# Altium footprint library PIC32CZ4010CA80208-I8MX.PcbLib: 3 footprints
Each footprint in its own frame and in the unit in brackets; x right, y up, seen from the top. Pads: shape width x height; smd on the part's side, far side on the other; paste and mask are expansions set on the pad; w line width, h text height; cw(c..) or ccw(c..) is an arc to the next point about the centre after c.
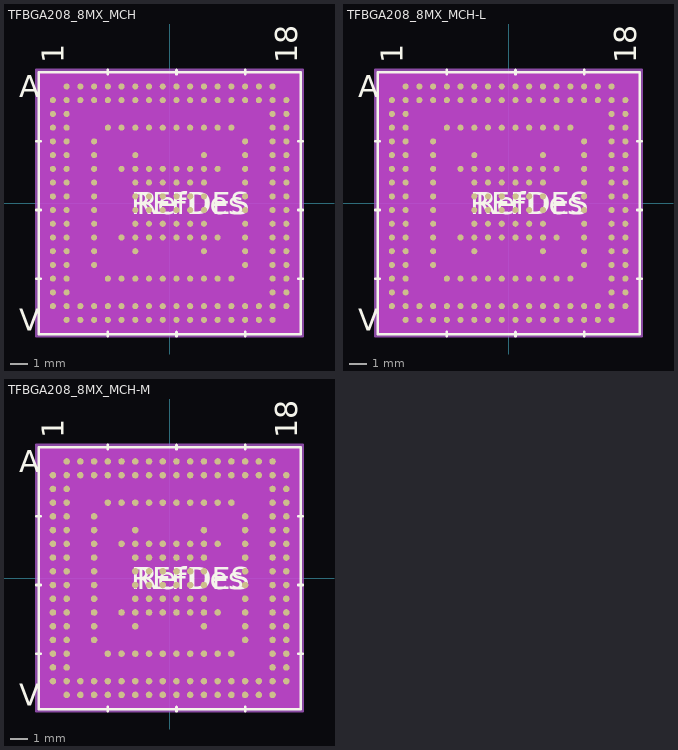
[diagram p0: the footprints below, top view; thin cyan lines are the x and y axes]

## TFBGA208_8MX_MCH [mm]
pads (208):
  round 0.356 smd paste+0 mask+0: A2(-6,6.8) A3(-5.2,6.8) A4(-4.4,6.8) A5(-3.6,6.8) A6(-2.8,6.8) A7(-2,6.8) A8(-1.2,6.8) A9(-0.4,6.8) A10(0.4,6.8) A11(1.2,6.8) A12(2,6.8) A13(2.8,6.8) A14(3.6,6.8) A15(4.4,6.8) A16(5.2,6.8) A17(6,6.8) B1(-6.8,6) B2(-6,6) B3(-5.2,6) B4(-4.4,6) B5(-3.6,6) B6(-2.8,6) B7(-2,6) B8(-1.2,6) B9(-0.4,6) B10(0.4,6) B11(1.2,6) B12(2,6) B13(2.8,6) B14(3.6,6) B15(4.4,6) B16(5.2,6) B17(6,6) B18(6.8,6) C1(-6.8,5.2) C2(-6,5.2) C17(6,5.2) C18(6.8,5.2) D1(-6.8,4.4) D2(-6,4.4) D5(-3.6,4.4) D6(-2.8,4.4) D7(-2,4.4) D8(-1.2,4.4) D9(-0.4,4.4) D10(0.4,4.4) D11(1.2,4.4) D12(2,4.4) D13(2.8,4.4) D14(3.6,4.4) D17(6,4.4) D18(6.8,4.4) E1(-6.8,3.6) E2(-6,3.6) E4(-4.4,3.6) E15(4.4,3.6) E17(6,3.6) E18(6.8,3.6) F1(-6.8,2.8) F2(-6,2.8) F4(-4.4,2.8) F7(-2,2.8) F12(2,2.8) F15(4.4,2.8) F17(6,2.8) F18(6.8,2.8) G1(-6.8,2) G2(-6,2) G4(-4.4,2) G6(-2.8,2) G7(-2,2) G8(-1.2,2) G9(-0.4,2) G10(0.4,2) G11(1.2,2) G12(2,2) G13(2.8,2) G15(4.4,2) G17(6,2) G18(6.8,2) H1(-6.8,1.2) H2(-6,1.2) H4(-4.4,1.2) H7(-2,1.2) H8(-1.2,1.2) H9(-0.4,1.2) H10(0.4,1.2) H11(1.2,1.2) H12(2,1.2) H15(4.4,1.2) H17(6,1.2) H18(6.8,1.2) J1(-6.8,0.4) J2(-6,0.4) J4(-4.4,0.4) J7(-2,0.4) J8(-1.2,0.4) J9(-0.4,0.4) J10(0.4,0.4) J11(1.2,0.4) J12(2,0.4) J15(4.4,0.4) J17(6,0.4) J18(6.8,0.4) K1(-6.8,-0.4) K2(-6,-0.4) K4(-4.4,-0.4) K7(-2,-0.4) K8(-1.2,-0.4) K9(-0.4,-0.4) K10(0.4,-0.4) K11(1.2,-0.4) K12(2,-0.4) K15(4.4,-0.4) K17(6,-0.4) K18(6.8,-0.4) L1(-6.8,-1.2) L2(-6,-1.2) L4(-4.4,-1.2) L7(-2,-1.2) L8(-1.2,-1.2) L9(-0.4,-1.2) L10(0.4,-1.2) L11(1.2,-1.2) L12(2,-1.2) L15(4.4,-1.2) L17(6,-1.2) L18(6.8,-1.2) M1(-6.8,-2) M2(-6,-2) M4(-4.4,-2) M6(-2.8,-2) M7(-2,-2) M8(-1.2,-2) M9(-0.4,-2) M10(0.4,-2) M11(1.2,-2) M12(2,-2) M13(2.8,-2) M15(4.4,-2) M17(6,-2) M18(6.8,-2) N1(-6.8,-2.8) N2(-6,-2.8) N4(-4.4,-2.8) N7(-2,-2.8) N12(2,-2.8) N15(4.4,-2.8) N17(6,-2.8) N18(6.8,-2.8) P1(-6.8,-3.6) P2(-6,-3.6) P4(-4.4,-3.6) P15(4.4,-3.6) P17(6,-3.6) P18(6.8,-3.6) R1(-6.8,-4.4) R2(-6,-4.4) R5(-3.6,-4.4) R6(-2.8,-4.4) R7(-2,-4.4) R8(-1.2,-4.4) R9(-0.4,-4.4) R10(0.4,-4.4) R11(1.2,-4.4) R12(2,-4.4) R13(2.8,-4.4) R14(3.6,-4.4) R17(6,-4.4) R18(6.8,-4.4) T1(-6.8,-5.2) T2(-6,-5.2) T17(6,-5.2) T18(6.8,-5.2) U1(-6.8,-6) U2(-6,-6) U3(-5.2,-6) U4(-4.4,-6) U5(-3.6,-6) U6(-2.8,-6) U7(-2,-6) U8(-1.2,-6) U9(-0.4,-6) U10(0.4,-6) U11(1.2,-6) U12(2,-6) U13(2.8,-6) U14(3.6,-6) U15(4.4,-6) U16(5.2,-6) U17(6,-6) U18(6.8,-6) V2(-6,-6.8) V3(-5.2,-6.8) V4(-4.4,-6.8) V5(-3.6,-6.8) V6(-2.8,-6.8) V7(-2,-6.8) V8(-1.2,-6.8) V9(-0.4,-6.8) V10(0.4,-6.8) V11(1.2,-6.8) V12(2,-6.8) V13(2.8,-6.8) V14(3.6,-6.8) V15(4.4,-6.8) V16(5.2,-6.8) V17(6,-6.8)
Top Overlay:
  lines w0.152: -7.76,-4.4 -7.506,-4.4 ; -7.76,-0.4 -7.506,-0.4 ; -7.76,3.6 -7.506,3.6 ; -3.6,-7.76 -3.6,-7.506 ; -3.6,7.506 -3.6,7.76 ; 0.4,-7.76 0.4,-7.506 ; 0.4,7.506 0.4,7.76 ; 4.4,-7.76 4.4,-7.506 ; 4.4,7.506 4.4,7.76 ; 7.506,-4.4 7.76,-4.4 ; 7.506,-0.4 7.76,-0.4 ; 7.506,3.6 7.76,3.6 ; -7.633,-7.633 7.633,-7.633 7.633,7.633 -7.633,7.633 -7.633,-7.633
  text "A" at -8.776,6.165 h1.27
  text "V" at -8.776,-7.435 h1.27
  text "1" at -6.165,8.141 h1.27
  text "18" at 7.435,8.141 h1.27
  text "RefDes" at -1.905,-0.635 h1.27
  text "REFDES" at -2.222,-0.635 h1.27
Bottom Overlay:
  text "A" at -8.141,6.165 h1.27
  text "V" at -8.141,-7.435 h1.27
  text "1" at -7.435,8.141 h1.27
  text "18" at 6.165,8.141 h1.27
Keep-Out Layer:
  region: -7.644,-7.644 -7.644,7.644 7.644,7.644 7.644,-7.644
Mechanical 13:
  lines w0.025: -7.506,7.106 -7.106,7.506 ; -7.506,-7.506 7.506,-7.506 7.506,7.506 -7.506,7.506 -7.506,-7.506
  text "A" at -8.776,6.165 h1.27
  text "V" at -8.776,-7.435 h1.27
  text "1" at -6.165,8.141 h1.27
  text "18" at 7.435,8.141 h1.27
  text "RefDes2" at -2.222,-0.635 h1.27
Mechanical 15:
  region: 7.76,-7.76 -7.76,-7.76 -7.76,7.76 7.76,7.76
  lines w0.152: -7.76,-7.76 -7.76,7.76 7.76,7.76 7.76,-7.76 -7.76,-7.76
3D body "TFBGA208_8MX_MCH.step": height 1.2, standoff 0, extent -7.506,-7.506 7.506,7.506

## TFBGA208_8MX_MCH-L [mm]
pads (208):
  round 0.356 smd paste+0 mask+0: A2(-6,6.8) A3(-5.2,6.8) A4(-4.4,6.8) A5(-3.6,6.8) A6(-2.8,6.8) A7(-2,6.8) A8(-1.2,6.8) A9(-0.4,6.8) A10(0.4,6.8) A11(1.2,6.8) A12(2,6.8) A13(2.8,6.8) A14(3.6,6.8) A15(4.4,6.8) A16(5.2,6.8) A17(6,6.8) B1(-6.8,6) B2(-6,6) B3(-5.2,6) B4(-4.4,6) B5(-3.6,6) B6(-2.8,6) B7(-2,6) B8(-1.2,6) B9(-0.4,6) B10(0.4,6) B11(1.2,6) B12(2,6) B13(2.8,6) B14(3.6,6) B15(4.4,6) B16(5.2,6) B17(6,6) B18(6.8,6) C1(-6.8,5.2) C2(-6,5.2) C17(6,5.2) C18(6.8,5.2) D1(-6.8,4.4) D2(-6,4.4) D5(-3.6,4.4) D6(-2.8,4.4) D7(-2,4.4) D8(-1.2,4.4) D9(-0.4,4.4) D10(0.4,4.4) D11(1.2,4.4) D12(2,4.4) D13(2.8,4.4) D14(3.6,4.4) D17(6,4.4) D18(6.8,4.4) E1(-6.8,3.6) E2(-6,3.6) E4(-4.4,3.6) E15(4.4,3.6) E17(6,3.6) E18(6.8,3.6) F1(-6.8,2.8) F2(-6,2.8) F4(-4.4,2.8) F7(-2,2.8) F12(2,2.8) F15(4.4,2.8) F17(6,2.8) F18(6.8,2.8) G1(-6.8,2) G2(-6,2) G4(-4.4,2) G6(-2.8,2) G7(-2,2) G8(-1.2,2) G9(-0.4,2) G10(0.4,2) G11(1.2,2) G12(2,2) G13(2.8,2) G15(4.4,2) G17(6,2) G18(6.8,2) H1(-6.8,1.2) H2(-6,1.2) H4(-4.4,1.2) H7(-2,1.2) H8(-1.2,1.2) H9(-0.4,1.2) H10(0.4,1.2) H11(1.2,1.2) H12(2,1.2) H15(4.4,1.2) H17(6,1.2) H18(6.8,1.2) J1(-6.8,0.4) J2(-6,0.4) J4(-4.4,0.4) J7(-2,0.4) J8(-1.2,0.4) J9(-0.4,0.4) J10(0.4,0.4) J11(1.2,0.4) J12(2,0.4) J15(4.4,0.4) J17(6,0.4) J18(6.8,0.4) K1(-6.8,-0.4) K2(-6,-0.4) K4(-4.4,-0.4) K7(-2,-0.4) K8(-1.2,-0.4) K9(-0.4,-0.4) K10(0.4,-0.4) K11(1.2,-0.4) K12(2,-0.4) K15(4.4,-0.4) K17(6,-0.4) K18(6.8,-0.4) L1(-6.8,-1.2) L2(-6,-1.2) L4(-4.4,-1.2) L7(-2,-1.2) L8(-1.2,-1.2) L9(-0.4,-1.2) L10(0.4,-1.2) L11(1.2,-1.2) L12(2,-1.2) L15(4.4,-1.2) L17(6,-1.2) L18(6.8,-1.2) M1(-6.8,-2) M2(-6,-2) M4(-4.4,-2) M6(-2.8,-2) M7(-2,-2) M8(-1.2,-2) M9(-0.4,-2) M10(0.4,-2) M11(1.2,-2) M12(2,-2) M13(2.8,-2) M15(4.4,-2) M17(6,-2) M18(6.8,-2) N1(-6.8,-2.8) N2(-6,-2.8) N4(-4.4,-2.8) N7(-2,-2.8) N12(2,-2.8) N15(4.4,-2.8) N17(6,-2.8) N18(6.8,-2.8) P1(-6.8,-3.6) P2(-6,-3.6) P4(-4.4,-3.6) P15(4.4,-3.6) P17(6,-3.6) P18(6.8,-3.6) R1(-6.8,-4.4) R2(-6,-4.4) R5(-3.6,-4.4) R6(-2.8,-4.4) R7(-2,-4.4) R8(-1.2,-4.4) R9(-0.4,-4.4) R10(0.4,-4.4) R11(1.2,-4.4) R12(2,-4.4) R13(2.8,-4.4) R14(3.6,-4.4) R17(6,-4.4) R18(6.8,-4.4) T1(-6.8,-5.2) T2(-6,-5.2) T17(6,-5.2) T18(6.8,-5.2) U1(-6.8,-6) U2(-6,-6) U3(-5.2,-6) U4(-4.4,-6) U5(-3.6,-6) U6(-2.8,-6) U7(-2,-6) U8(-1.2,-6) U9(-0.4,-6) U10(0.4,-6) U11(1.2,-6) U12(2,-6) U13(2.8,-6) U14(3.6,-6) U15(4.4,-6) U16(5.2,-6) U17(6,-6) U18(6.8,-6) V2(-6,-6.8) V3(-5.2,-6.8) V4(-4.4,-6.8) V5(-3.6,-6.8) V6(-2.8,-6.8) V7(-2,-6.8) V8(-1.2,-6.8) V9(-0.4,-6.8) V10(0.4,-6.8) V11(1.2,-6.8) V12(2,-6.8) V13(2.8,-6.8) V14(3.6,-6.8) V15(4.4,-6.8) V16(5.2,-6.8) V17(6,-6.8)
Top Overlay:
  lines w0.152: -7.76,-4.4 -7.506,-4.4 ; -7.76,-0.4 -7.506,-0.4 ; -7.76,3.6 -7.506,3.6 ; -3.6,-7.76 -3.6,-7.506 ; -3.6,7.506 -3.6,7.76 ; 0.4,-7.76 0.4,-7.506 ; 0.4,7.506 0.4,7.76 ; 4.4,-7.76 4.4,-7.506 ; 4.4,7.506 4.4,7.76 ; 7.506,-4.4 7.76,-4.4 ; 7.506,-0.4 7.76,-0.4 ; 7.506,3.6 7.76,3.6 ; -7.633,-7.633 7.633,-7.633 7.633,7.633 -7.633,7.633 -7.633,-7.633
  text "A" at -8.776,6.165 h1.27
  text "V" at -8.776,-7.435 h1.27
  text "1" at -6.165,8.141 h1.27
  text "18" at 7.435,8.141 h1.27
  text "RefDes" at -1.905,-0.635 h1.27
  text "REFDES" at -2.222,-0.635 h1.27
Bottom Overlay:
  text "A" at -8.141,6.165 h1.27
  text "V" at -8.141,-7.435 h1.27
  text "1" at -7.435,8.141 h1.27
  text "18" at 6.165,8.141 h1.27
Keep-Out Layer:
  region: -7.644,-7.644 -7.644,7.644 7.644,7.644 7.644,-7.644
Mechanical 13:
  lines w0.025: -7.506,7.106 -7.106,7.506 ; -7.506,-7.506 7.506,-7.506 7.506,7.506 -7.506,7.506 -7.506,-7.506
  text "A" at -8.776,6.165 h1.27
  text "V" at -8.776,-7.435 h1.27
  text "1" at -6.165,8.141 h1.27
  text "18" at 7.435,8.141 h1.27
  text "RefDes2" at -2.222,-0.635 h1.27
Mechanical 15:
  region: 7.76,-7.76 -7.76,-7.76 -7.76,7.76 7.76,7.76
  lines w0.152: -7.76,-7.76 -7.76,7.76 7.76,7.76 7.76,-7.76 -7.76,-7.76
3D body "TFBGA208_8MX_MCH.step": height 1.2, standoff 0, extent -7.506,-7.506 7.506,7.506

## TFBGA208_8MX_MCH-M [mm]
pads (208):
  round 0.381 smd paste+0 mask+0: A2(-6,6.8) A3(-5.2,6.8) A4(-4.4,6.8) A5(-3.6,6.8) A6(-2.8,6.8) A7(-2,6.8) A8(-1.2,6.8) A9(-0.4,6.8) A10(0.4,6.8) A11(1.2,6.8) A12(2,6.8) A13(2.8,6.8) A14(3.6,6.8) A15(4.4,6.8) A16(5.2,6.8) A17(6,6.8) B1(-6.8,6) B2(-6,6) B3(-5.2,6) B4(-4.4,6) B5(-3.6,6) B6(-2.8,6) B7(-2,6) B8(-1.2,6) B9(-0.4,6) B10(0.4,6) B11(1.2,6) B12(2,6) B13(2.8,6) B14(3.6,6) B15(4.4,6) B16(5.2,6) B17(6,6) B18(6.8,6) C1(-6.8,5.2) C2(-6,5.2) C17(6,5.2) C18(6.8,5.2) D1(-6.8,4.4) D2(-6,4.4) D5(-3.6,4.4) D6(-2.8,4.4) D7(-2,4.4) D8(-1.2,4.4) D9(-0.4,4.4) D10(0.4,4.4) D11(1.2,4.4) D12(2,4.4) D13(2.8,4.4) D14(3.6,4.4) D17(6,4.4) D18(6.8,4.4) E1(-6.8,3.6) E2(-6,3.6) E4(-4.4,3.6) E15(4.4,3.6) E17(6,3.6) E18(6.8,3.6) F1(-6.8,2.8) F2(-6,2.8) F4(-4.4,2.8) F7(-2,2.8) F12(2,2.8) F15(4.4,2.8) F17(6,2.8) F18(6.8,2.8) G1(-6.8,2) G2(-6,2) G4(-4.4,2) G6(-2.8,2) G7(-2,2) G8(-1.2,2) G9(-0.4,2) G10(0.4,2) G11(1.2,2) G12(2,2) G13(2.8,2) G15(4.4,2) G17(6,2) G18(6.8,2) H1(-6.8,1.2) H2(-6,1.2) H4(-4.4,1.2) H7(-2,1.2) H8(-1.2,1.2) H9(-0.4,1.2) H10(0.4,1.2) H11(1.2,1.2) H12(2,1.2) H15(4.4,1.2) H17(6,1.2) H18(6.8,1.2) J1(-6.8,0.4) J2(-6,0.4) J4(-4.4,0.4) J7(-2,0.4) J8(-1.2,0.4) J9(-0.4,0.4) J10(0.4,0.4) J11(1.2,0.4) J12(2,0.4) J15(4.4,0.4) J17(6,0.4) J18(6.8,0.4) K1(-6.8,-0.4) K2(-6,-0.4) K4(-4.4,-0.4) K7(-2,-0.4) K8(-1.2,-0.4) K9(-0.4,-0.4) K10(0.4,-0.4) K11(1.2,-0.4) K12(2,-0.4) K15(4.4,-0.4) K17(6,-0.4) K18(6.8,-0.4) L1(-6.8,-1.2) L2(-6,-1.2) L4(-4.4,-1.2) L7(-2,-1.2) L8(-1.2,-1.2) L9(-0.4,-1.2) L10(0.4,-1.2) L11(1.2,-1.2) L12(2,-1.2) L15(4.4,-1.2) L17(6,-1.2) L18(6.8,-1.2) M1(-6.8,-2) M2(-6,-2) M4(-4.4,-2) M6(-2.8,-2) M7(-2,-2) M8(-1.2,-2) M9(-0.4,-2) M10(0.4,-2) M11(1.2,-2) M12(2,-2) M13(2.8,-2) M15(4.4,-2) M17(6,-2) M18(6.8,-2) N1(-6.8,-2.8) N2(-6,-2.8) N4(-4.4,-2.8) N7(-2,-2.8) N12(2,-2.8) N15(4.4,-2.8) N17(6,-2.8) N18(6.8,-2.8) P1(-6.8,-3.6) P2(-6,-3.6) P4(-4.4,-3.6) P15(4.4,-3.6) P17(6,-3.6) P18(6.8,-3.6) R1(-6.8,-4.4) R2(-6,-4.4) R5(-3.6,-4.4) R6(-2.8,-4.4) R7(-2,-4.4) R8(-1.2,-4.4) R9(-0.4,-4.4) R10(0.4,-4.4) R11(1.2,-4.4) R12(2,-4.4) R13(2.8,-4.4) R14(3.6,-4.4) R17(6,-4.4) R18(6.8,-4.4) T1(-6.8,-5.2) T2(-6,-5.2) T17(6,-5.2) T18(6.8,-5.2) U1(-6.8,-6) U2(-6,-6) U3(-5.2,-6) U4(-4.4,-6) U5(-3.6,-6) U6(-2.8,-6) U7(-2,-6) U8(-1.2,-6) U9(-0.4,-6) U10(0.4,-6) U11(1.2,-6) U12(2,-6) U13(2.8,-6) U14(3.6,-6) U15(4.4,-6) U16(5.2,-6) U17(6,-6) U18(6.8,-6) V2(-6,-6.8) V3(-5.2,-6.8) V4(-4.4,-6.8) V5(-3.6,-6.8) V6(-2.8,-6.8) V7(-2,-6.8) V8(-1.2,-6.8) V9(-0.4,-6.8) V10(0.4,-6.8) V11(1.2,-6.8) V12(2,-6.8) V13(2.8,-6.8) V14(3.6,-6.8) V15(4.4,-6.8) V16(5.2,-6.8) V17(6,-6.8)
Top Overlay:
  lines w0.152: -7.76,-4.4 -7.506,-4.4 ; -7.76,-0.4 -7.506,-0.4 ; -7.76,3.6 -7.506,3.6 ; -3.6,-7.76 -3.6,-7.506 ; -3.6,7.506 -3.6,7.76 ; 0.4,-7.76 0.4,-7.506 ; 0.4,7.506 0.4,7.76 ; 4.4,-7.76 4.4,-7.506 ; 4.4,7.506 4.4,7.76 ; 7.506,-4.4 7.76,-4.4 ; 7.506,-0.4 7.76,-0.4 ; 7.506,3.6 7.76,3.6 ; -7.633,-7.633 7.633,-7.633 7.633,7.633 -7.633,7.633 -7.633,-7.633
  text "A" at -8.776,6.165 h1.27
  text "V" at -8.776,-7.435 h1.27
  text "1" at -6.165,8.141 h1.27
  text "18" at 7.435,8.141 h1.27
  text "RefDes" at -1.905,-0.635 h1.27
  text "REFDES" at -2.222,-0.635 h1.27
Bottom Overlay:
  text "A" at -8.141,6.165 h1.27
  text "V" at -8.141,-7.435 h1.27
  text "1" at -7.435,8.141 h1.27
  text "18" at 6.165,8.141 h1.27
Keep-Out Layer:
  region: -7.644,-7.644 -7.644,7.644 7.644,7.644 7.644,-7.644
Mechanical 13:
  lines w0.025: -7.506,7.106 -7.106,7.506 ; -7.506,-7.506 7.506,-7.506 7.506,7.506 -7.506,7.506 -7.506,-7.506
  text "A" at -8.776,6.165 h1.27
  text "V" at -8.776,-7.435 h1.27
  text "1" at -6.165,8.141 h1.27
  text "18" at 7.435,8.141 h1.27
  text "RefDes2" at -2.222,-0.635 h1.27
Mechanical 15:
  region: 7.76,-7.76 -7.76,-7.76 -7.76,7.76 7.76,7.76
  lines w0.152: -7.76,-7.76 -7.76,7.76 7.76,7.76 7.76,-7.76 -7.76,-7.76
3D body "TFBGA208_8MX_MCH.step": height 1.2, standoff 0, extent -7.506,-7.506 7.506,7.506